# EAGLE library part AP1509 (library trainlib)
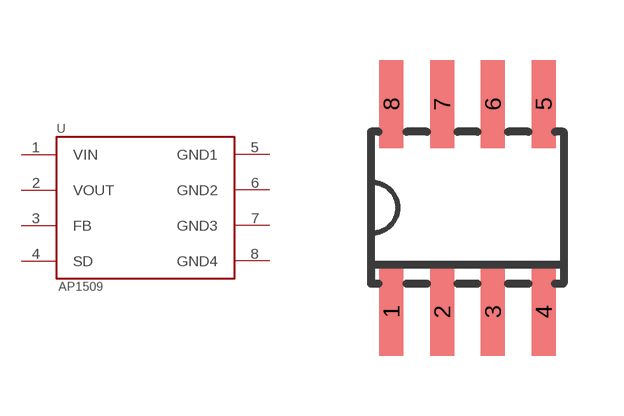
[diagram p17: symbol with the pads of SO-08; footprint SO-08]

Designator prefix U

## AP1509  [SO-08]
1  VIN
2  VOUT
3  FB
4  SD
5  GND1  pwr
6  GND2  pwr
7  GND3  pwr
8  GND4  pwr

## Footprint SO-08 (pad centres in mm)
Small Outline Narrow Plastic Gull Wing 150-mil body, package type SN
smd 0.6 x 2.2: 1 -1.905,-2.6; 2 -0.635,-2.6; 3 0.635,-2.6; 4 1.905,-2.6; 5 1.905,2.6; 6 0.635,2.6; 7 -0.635,2.6; 8 -1.905,2.6